# Altium footprint library 2_Smoke_detector.PcbLib: 25 footprints (part 2 of 2)
Each footprint in its own frame and in the unit in brackets; x right, y up, seen from the top. Pads: shape width x height; smd on the part's side, far side on the other; paste and mask are expansions set on the pad; w line width, h text height; cw(c..) or ccw(c..) is an arc to the next point about the centre after c.
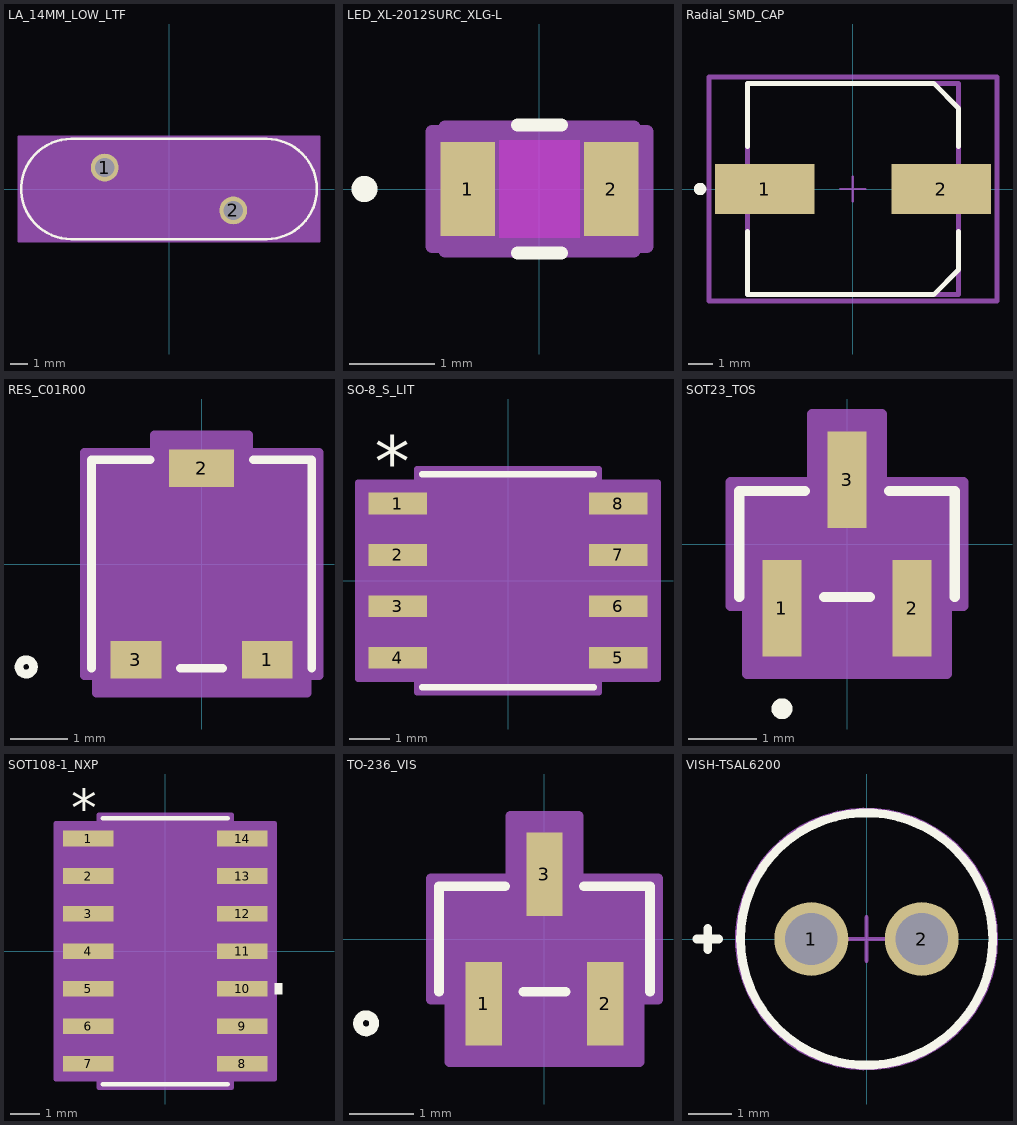
[diagram p1: the footprints below, top view; thin cyan lines are the x and y axes]

## LA_14MM_LOW_LTF [mil] "Varistor_MOV"
pads (2):
  round 64 / inner round 60 / far side round 64 hole 44 paste-99999 mask+0: 1(-147.64,49.21) 2(147.64,-49.21)
Top Overlay:
  lines w6: -224.5,-115 cw(c-224.5,0) -224.5,115 224.5,115 cw(c224.5,0) 339.5,0 cw(c224.5,0) 224.5,-115 -224.5,-115
Mechanical 13:
  lines w0: -224.5,-110 cw(c-224.5,0) -224.5,110 ; 224.5,-110 ccw(c224.5,0) 224.5,110
  lines w1: -224.5,-110 224.5,-110 ; -224.5,110 224.5,110
Mechanical 15:
  region: 344.5,-120 -344.5,-120 -344.5,120 344.5,120
  lines w6: -344.5,-120 -344.5,120 344.5,120 344.5,-120 -344.5,-120
3D body "V275LA20AP.stp": height 732.42, standoff -999.5, extent -334.42,-106.85 334.42,90

## LED_XL-2012SURC_XLG-L [mil] "LED 0805"
pads (2):
  rect 24.91x43.03 smd paste+0 mask+0: 1(-32.95,0) 2(32.95,0)
Top Layer keep-out:
  region: -18.5,-22.5 -18.5,22.5 18.5,22.5 18.5,-22.5
Top Overlay:
  circle w6: c-80.41,0 r3
  lines w6: -10.11,-29.5 10.11,-29.5 ; -10.11,29.5 10.11,29.5
Keep-Out Layer:
  region: -18.5,-22.5 -18.5,22.5 18.5,22.5 18.5,-22.5
Mechanical 13:
  circle w0: c-32.95,0 r3
  lines w1: -39.5,-24.5 -39.5,24.5 39.5,24.5 39.5,-24.5 -39.5,-24.5 ; -39.5,-22.5 -39.5,22.5 -39.5,-22.5 ; 39.5,-22.5 39.5,22.5 39.5,-22.5
Mechanical 15:
  region: -43.5,-26.5 -49.41,-26.5 -49.41,26.5 -43.5,26.5 -43.5,28.5 43.5,28.5 43.5,26.5 49.41,26.5 49.41,-26.5 43.5,-26.5 43.5,-28.5 -43.5,-28.5
  lines w6: -49.41,-26.5 -43.5,-26.5 -43.5,-28.5 43.5,-28.5 43.5,-26.5 49.41,-26.5 49.41,26.5 43.5,26.5 43.5,28.5 -43.5,28.5 -43.5,26.5 -49.41,26.5 -49.41,-26.5
3D body "LED_XL-2012SURC_XLG.step": height 32.09, standoff 0, extent -39.49,-24.49 39.49,24.49

## Radial_SMD_CAP [mm]
pads (2):
  rect 4x2 smd paste+0 mask+0: 1(-3.55,0) 2(3.55,0)
Top Overlay:
  circle w0.25: c-6.15,0 r0.125
  lines w0.2: -4.25,-1.7 -4.25,-4.25 3.25,-4.25 4.25,-3.25 4.25,-1.7 ; -4.25,1.7 -4.25,4.25 3.25,4.25 4.25,3.25 4.25,1.7
Top 3D Body:
  lines w0.2: -4.25,-4.25 -4.25,4.25 4.25,4.25 4.25,-4.25 -4.25,-4.25
Top Courtyard:
  lines w0.2: -5.8,-4.5 -5.8,4.5 5.8,4.5 5.8,-4.5 -5.8,-4.5
Top Assembly:
  lines w0.2: -5.8,-4.5 -5.8,4.5 5.8,4.5 5.8,-4.5 -5.8,-4.5
Top Component Center:
  lines w0.1: -0.5,0 0.5,0 ; 0,-0.5 0,0.5
3D body "Cap_Panasonic_Electronic_Components_EEE-FK1H101GP_eec.STEP": height 0.25, standoff 0, extent -5.8,-4.5 5.8,4.5

## RES_C01R00 [mil]
pads (3):
  rect 35x26 smd paste+0 mask+0: 1(45.28,-66) 3(-45.28,-66)
  rect 45x26 smd paste+0 mask+0: 2(0,66)
Top Overlay:
  circle w6: c-121,-71 r5
  lines w6: -76,-72 -76,72 -35.6,72 ; -14.68,-72 14.68,-72 ; 35.6,72 76,72 76,-72
Mechanical 13:
  circle w0: c-61,-57 r5
  lines w1: -71,-67 71,-67 71,67 -71,67 -71,-67 ; -62.78,-71 -62.78,-67 -27.78,-67 -27.78,-71 -62.78,-71 ; -22.5,67 22.5,67 22.5,71 -22.5,71 -22.5,67 ; 27.78,-71 27.78,-67 62.78,-67 62.78,-71 27.78,-71
Mechanical 15:
  region: -81,-77 -81,77 -32.5,77 -32.5,89 32.5,89 32.5,77 81,77 81,-77 72.78,-77 72.78,-89 -72.78,-89 -72.78,-77
  region: 71,-67 -71,-67 -71,67 71,67
  lines w6: -81,-77 -81,77 -32.5,77 -32.5,89 32.5,89 32.5,77 81,77 81,-77 72.78,-77 72.78,-89 -72.78,-89 -72.78,-77 -81,-77
3D body "RES_C01R00.step": height 81.1, standoff 0, extent -70.98,-67.01 70.98,67.01

## SO-8_S_LIT [mil]
pads (8):
  rect 57.28x20.97 smd paste+0 mask+0: 1(-107.14,75) 2(-107.14,25) 3(-107.14,-25) 4(-107.14,-75) 5(107.14,-75) 6(107.14,-25) 7(107.14,25) 8(107.14,75)
Top Overlay:
  lines w6: -83.5,-103.5 83.5,-103.5 ; -83.5,103.5 83.5,103.5
  text "*" at -129.64,90.97 h50
Top 3D Body:
  lines w1: -12,98.5 ccw(c0,98.5) 12,98.5 ; -122,-84.5 -78.5,-84.5 -78.5,-65.5 -122,-65.5 -122,-84.5 ; -122,-34.5 -78.5,-34.5 -78.5,-15.5 -122,-15.5 -122,-34.5 ; -122,15.5 -78.5,15.5 -78.5,34.5 -122,34.5 -122,15.5 ; -122,65.5 -78.5,65.5 -78.5,84.5 -122,84.5 -122,65.5 ; -78.5,-98.5 -78.5,98.5 78.5,98.5 78.5,-98.5 -78.5,-98.5 ; 78.5,-84.5 122,-84.5 122,-65.5 78.5,-65.5 78.5,-84.5 ; 78.5,-34.5 122,-34.5 122,-15.5 78.5,-15.5 78.5,-34.5 ; 78.5,15.5 122,15.5 122,34.5 78.5,34.5 78.5,15.5 ; 78.5,65.5 122,65.5 122,84.5 78.5,84.5 78.5,65.5
  text "*" at -76,45.5 h50
Top Courtyard:
  region: -88.5,-95.48 -145.78,-95.48 -145.78,95.48 -88.5,95.48 -88.5,108.5 88.5,108.5 88.5,95.48 145.78,95.48 145.78,-95.48 88.5,-95.48 88.5,-108.5 -88.5,-108.5
  lines w6: -145.78,-95.48 -88.5,-95.48 -88.5,-108.5 88.5,-108.5 88.5,-95.48 145.78,-95.48 145.78,95.48 88.5,95.48 88.5,108.5 -88.5,108.5 -88.5,95.48 -145.78,95.48 -145.78,-95.48
3D body "SO-8_S_LIT.step": height 69.09, standoff 0, extent -122.01,-98.5 122.01,98.5

## SOT23_TOS [mil]
pads (3):
  rect 22.36x55.56 smd paste+0 mask+0: 1(-37.4,-37) 2(37.4,-37) 3(0,37)
Top Overlay:
  circle w6: c-37.4,-94.78 r3
  lines w6: -62,-30.5 -62,30.5 -24.28,30.5 ; -13.12,-30.5 13.12,-30.5 ; 24.28,30.5 62,30.5 62,-30.5
Mechanical 13:
  circle w1: c-37.4,-15.5 r3
  lines w1: -57,-25.5 57,-25.5 57,25.5 -57,25.5 -57,-25.5 ; -47.4,-51 -47.4,-25.5 -27.4,-25.5 -27.4,-51 -47.4,-51 ; -10,25.5 10,25.5 10,51 -10,51 -10,25.5 ; 27.4,-51 27.4,-25.5 47.4,-25.5 47.4,-51 27.4,-51
Mechanical 15:
  region: -67,-35.5 -67,35.5 -20,35.5 -20,74.78 20,74.78 20,35.5 67,35.5 67,-35.5 57.4,-35.5 57.4,-74.78 -57.4,-74.78 -57.4,-35.5
  lines w6: -67,-35.5 -67,35.5 -20,35.5 -20,74.78 20,74.78 20,35.5 67,35.5 67,-35.5 57.4,-35.5 57.4,-74.78 -57.4,-74.78 -57.4,-35.5 -67,-35.5
3D body "SOT23_TOS.step": height 43.11, standoff 0, extent -57.01,-50.98 57.01,50.98

## SOT108-1_NXP [mil]
pads (14):
  rect 67x21 smd paste+0 mask+0: 1(-102.5,150) 2(-102.5,100) 3(-102.5,50) 4(-102.5,0) 5(-102.5,-50) 6(-102.5,-100) 7(-102.5,-150) 8(102.5,-150) 9(102.5,-100) 10(102.5,-50) 11(102.5,0) 12(102.5,50) 13(102.5,100) 14(102.5,150)
Top Overlay:
  region: 146,-42.5 156,-42.5 156,-57.5 146,-57.5
  lines w6: -83.5,-177 83.5,-177 ; -83.5,177 83.5,177
  text "*" at -125,166 h50
Mechanical 13:
  lines w1: -12,172 ccw(c0,172) 12,172 ; -122,-159.5 -78.5,-159.5 -78.5,-140.5 -122,-140.5 -122,-159.5 ; -122,-109.5 -78.5,-109.5 -78.5,-90.5 -122,-90.5 -122,-109.5 ; -122,-59.5 -78.5,-59.5 -78.5,-40.5 -122,-40.5 -122,-59.5 ; -122,-9.5 -78.5,-9.5 -78.5,9.5 -122,9.5 -122,-9.5 ; -122,40.5 -78.5,40.5 -78.5,59.5 -122,59.5 -122,40.5 ; -122,90.5 -78.5,90.5 -78.5,109.5 -122,109.5 -122,90.5 ; -122,140.5 -78.5,140.5 -78.5,159.5 -122,159.5 -122,140.5 ; -78.5,-172 -78.5,172 78.5,172 78.5,-172 -78.5,-172 ; 78.5,-159.5 122,-159.5 122,-140.5 78.5,-140.5 78.5,-159.5 ; 78.5,-109.5 122,-109.5 122,-90.5 78.5,-90.5 78.5,-109.5 ; 78.5,-59.5 122,-59.5 122,-40.5 78.5,-40.5 78.5,-59.5 ; 78.5,-9.5 122,-9.5 122,9.5 78.5,9.5 78.5,-9.5 ; 78.5,40.5 122,40.5 122,59.5 78.5,59.5 78.5,40.5 ; 78.5,90.5 122,90.5 122,109.5 78.5,109.5 78.5,90.5 ; 78.5,140.5 122,140.5 122,159.5 78.5,159.5 78.5,140.5
  text "*" at -76,119 h50
Mechanical 15:
  region: -88.5,-170.5 -146,-170.5 -146,170.5 -88.5,170.5 -88.5,182 88.5,182 88.5,170.5 146,170.5 146,-170.5 88.5,-170.5 88.5,-182 -88.5,-182
  lines w6: -146,-170.5 -88.5,-170.5 -88.5,-182 88.5,-182 88.5,-170.5 146,-170.5 146,170.5 88.5,170.5 88.5,182 -88.5,182 -88.5,170.5 -146,170.5 -146,-170.5
3D body "SOT108-1_NXP.step": height 69.09, standoff 0, extent -122.01,-172.01 122.01,172.01

## TO-236_VIS [mil] "SOT23_Si2301CDS"
pads (3):
  rect 22.36x51.56 smd paste+0 mask+0: 1(-37.4,-40) 2(37.4,-40) 3(0,40)
Top Overlay:
  circle w6: c-110,-52 r5
  lines w6: -65,-32.5 -65,32.5 -24.28,32.5 ; -13.12,-32.5 13.12,-32.5 ; 24.28,32.5 65,32.5 65,-32.5
Mechanical 13:
  circle w1: c-50,-17.5 r5
  lines w1: -60,-27.5 -60,27.5 60,27.5 60,-27.5 -60,-27.5 ; -47.4,-52 -27.4,-52 -27.4,-27.5 -47.4,-27.5 -47.4,-52 ; -10,27.5 -10,52 10,52 10,27.5 -10,27.5 ; 27.4,-52 47.4,-52 47.4,-27.5 27.4,-27.5 27.4,-52
Mechanical 15:
  region: 60,-27.5 -60,-27.5 -60,27.5 60,27.5
  region: -70,-37.5 -70,37.5 -21.18,37.5 -21.18,75.78 21.18,75.78 21.18,37.5 70,37.5 70,-37.5 58.58,-37.5 58.58,-75.78 -58.58,-75.78 -58.58,-37.5
  lines w6: -70,-37.5 -58.58,-37.5 -58.58,-75.78 58.58,-75.78 58.58,-37.5 70,-37.5 70,37.5 21.18,37.5 21.18,75.78 -21.18,75.78 -21.18,37.5 -70,37.5 -70,-37.5
3D body "TO-236_VIS.step": height 44.09, standoff 0, extent -60,-52.01 60,52.01

## VISH-TSAL6200 [mm] "THD, 2-Leads, Dia 5.8mm, Pitch 2.54mm"
pads (2):
  round 1.7 hole 1.2: 1(-1.27,0) 2(1.27,0)
Top Overlay:
  circle w0.2: c0,0 r2.9
  lines w0.2: -3.899,0 -3.4,0 ; -3.649,-0.25 -3.649,0.25
Mechanical 13:
  circle w0.1: c0,0 r2.9
Mechanical 15:
  circle w0.05: c0,0 r3
  lines w0.1: -0.5,0 0.5,0 ; 0,-0.5 0,0.5
3D body "TSAL6200--3DModel-STEP-269445.STEP": height 9.01, standoff -25.29, extent -3.048,-3.175 2.352,2.618